# EAGLE library part LEVEL_SHIFTER (library level_shifter)
Level shifter 5V <=> 3.3V
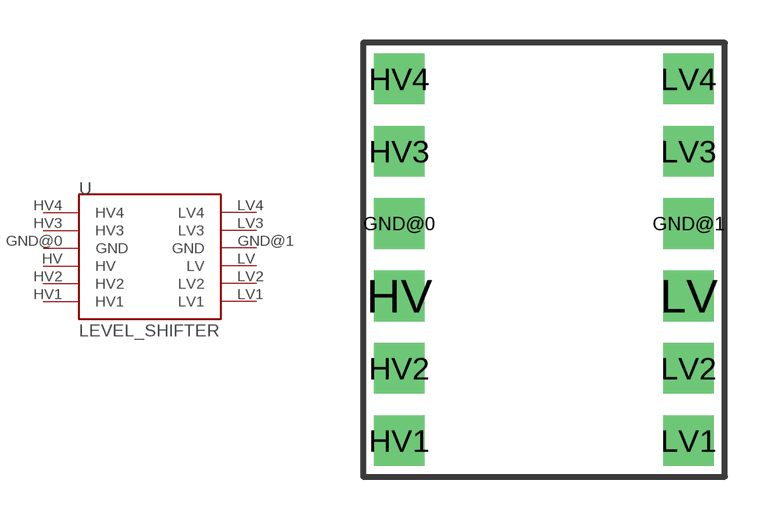
[diagram p0: symbol with the pads of LEVEL_SHIFTER; footprint LEVEL_SHIFTER]

Designator prefix -

## LEVEL_SHIFTER  [LEVEL_SHIFTER]
GND@0  GND
GND@1  GND
HV  HV
HV1  HV1
HV2  HV2
HV3  HV3
HV4  HV4
LV  LV
LV1  LV1
LV2  LV2
LV3  LV3
LV4  LV4

## Footprint LEVEL_SHIFTER (pad centres in mm)
Level shifter 5 <=> 3.3V
drill 0.8 pad 1.778 square: GND@0 -5.08,1.27; GND@1 5.08,1.27; HV -5.08,-1.27; HV1 -5.08,-6.35; HV2 -5.08,-3.81; HV3 -5.08,3.81; HV4 -5.08,6.35; LV 5.08,-1.27; LV1 5.08,-6.35; LV2 5.08,-3.81; LV3 5.08,3.81; LV4 5.08,6.35